# EAGLE library part CYPRESS-CY62256VNLL (library Pygmy)
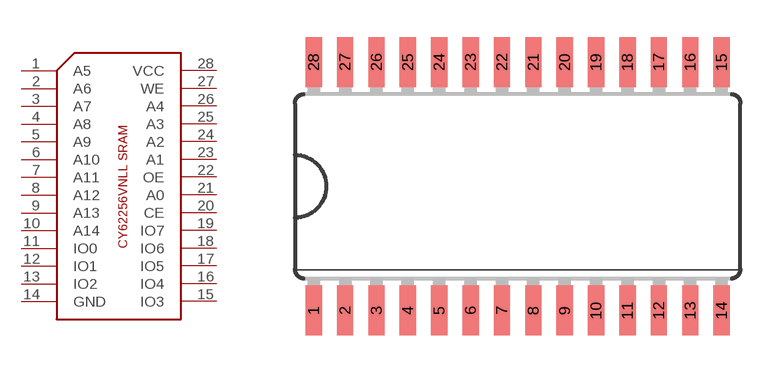
[diagram p5: symbol with the pads of SO28W; footprint SO28W]

Designator prefix -

## CYPRESS-CY62256VNLL  [SO28W]
1  A5
2  A6
3  A7
4  A8
5  A9
6  A10
7  A11
8  A12
9  A13
10  A14
11  IO0
12  IO1
13  IO2
14  GND
15  IO3
16  IO4
17  IO5
18  IO6
19  IO7
20  CE
21  A0
22  OE
23  A1
24  A2
25  A3
26  A4
27  WE
28  VCC

## Footprint SO28W (pad centres in mm)
Wide Small Outline package 300 mil
smd 0.66 x 2.032: 1 -8.255,-5.029; 2 -6.985,-5.029; 3 -5.715,-5.029; 4 -4.445,-5.029; 5 -3.175,-5.029; 6 -1.905,-5.029; 7 -0.635,-5.029; 8 0.635,-5.029; 9 1.905,-5.029; 10 3.175,-5.029; 11 4.445,-5.029; 12 5.715,-5.029; 13 6.985,-5.029; 14 8.255,-5.029; 15 8.255,5.029; 16 6.985,5.029; 17 5.715,5.029; 18 4.445,5.029; 19 3.175,5.029; 20 1.905,5.029; 21 0.635,5.029; 22 -0.635,5.029; 23 -1.905,5.029; 24 -3.175,5.029; 25 -4.445,5.029; 26 -5.715,5.029; 27 -6.985,5.029; 28 -8.255,5.029